# Altium schematic symbol library SCH - MCU - NUVOTON - NUVOTON NUC121SC2AE.SchLib: 1 symbol
Pins are listed as number, name and electrical type; pins without a type are passive.

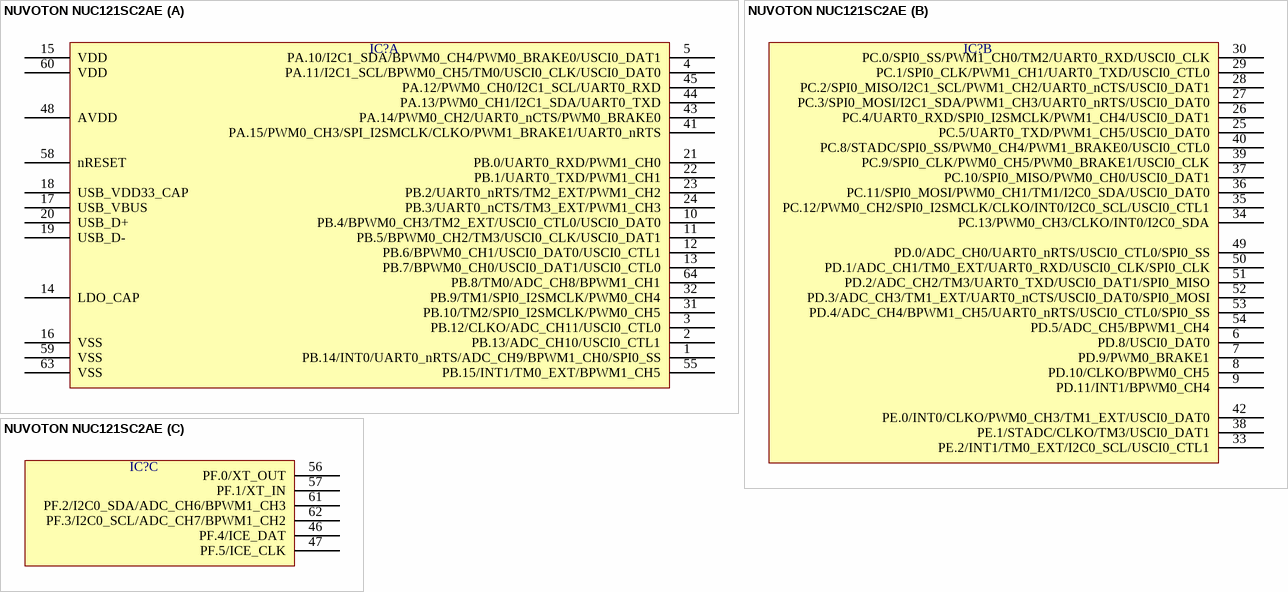
[diagram p0: symbol NUVOTON NUC121SC2AE]

## NUVOTON NUC121SC2AE
designator IC?  (value not drawn)
part A pins: 1 PB.14/INT0/UART0_nRTS/ADC_CH9/BPWM1_CH0/SPI0_SS, 2 PB.13/ADC_CH10/USCI0_CTL1, 3 PB.12/CLKO/ADC_CH11/USCI0_CTL0, 4 PA.11/I2C1_SCL/BPWM0_CH5/TM0/USCI0_CLK/USCI0_DAT0, 5 PA.10/I2C1_SDA/BPWM0_CH4/PWM0_BRAKE0/USCI0_DAT1, 10 PB.4/BPWM0_CH3/TM2_EXT/USCI0_CTL0/USCI0_DAT0, 11 PB.5/BPWM0_CH2/TM3/USCI0_CLK/USCI0_DAT1, 12 PB.6/BPWM0_CH1/USCI0_DAT0/USCI0_CTL1, 13 PB.7/BPWM0_CH0/USCI0_DAT1/USCI0_CTL0, 14 LDO_CAP, 15 VDD, 16 VSS, 17 USB_VBUS, 18 USB_VDD33_CAP, 19 USB_D-, 20 USB_D+, 21 PB.0/UART0_RXD/PWM1_CH0, 22 PB.1/UART0_TXD/PWM1_CH1, 23 PB.2/UART0_nRTS/TM2_EXT/PWM1_CH2, 24 PB.3/UART0_nCTS/TM3_EXT/PWM1_CH3, 31 PB.10/TM2/SPI0_I2SMCLK/PWM0_CH5, 32 PB.9/TM1/SPI0_I2SMCLK/PWM0_CH4, 41 PA.15/PWM0_CH3/SPI_I2SMCLK/CLKO/PWM1_BRAKE1/UART0_nRTS, 43 PA.14/PWM0_CH2/UART0_nCTS/PWM0_BRAKE0, 44 PA.13/PWM0_CH1/I2C1_SDA/UART0_TXD, 45 PA.12/PWM0_CH0/I2C1_SCL/UART0_RXD, 48 AVDD, 55 PB.15/INT1/TM0_EXT/BPWM1_CH5, 58 nRESET, 59 VSS, 60 VDD, 63 VSS, 64 PB.8/TM0/ADC_CH8/BPWM1_CH1
part B pins: 6 PD.8/USCI0_DAT0, 7 PD.9/PWM0_BRAKE1, 8 PD.10/CLKO/BPWM0_CH5, 9 PD.11/INT1/BPWM0_CH4, 25 PC.5/UART0_TXD/PWM1_CH5/USCI0_DAT0, 26 PC.4/UART0_RXD/SPI0_I2SMCLK/PWM1_CH4/USCI0_DAT1, 27 PC.3/SPI0_MOSI/I2C1_SDA/PWM1_CH3/UART0_nRTS/USCI0_DAT0, 28 PC.2/SPI0_MISO/I2C1_SCL/PWM1_CH2/UART0_nCTS/USCI0_DAT1, 29 PC.1/SPI0_CLK/PWM1_CH1/UART0_TXD/USCI0_CTL0, 30 PC.0/SPI0_SS/PWM1_CH0/TM2/UART0_RXD/USCI0_CLK, 33 PE.2/INT1/TM0_EXT/I2C0_SCL/USCI0_CTL1, 34 PC.13/PWM0_CH3/CLKO/INT0/I2C0_SDA, 35 PC.12/PWM0_CH2/SPI0_I2SMCLK/CLKO/INT0/I2C0_SCL/USCI0_CTL1, 36 PC.11/SPI0_MOSI/PWM0_CH1/TM1/I2C0_SDA/USCI0_DAT0, 37 PC.10/SPI0_MISO/PWM0_CH0/USCI0_DAT1, 38 PE.1/STADC/CLKO/TM3/USCI0_DAT1, 39 PC.9/SPI0_CLK/PWM0_CH5/PWM0_BRAKE1/USCI0_CLK, 40 PC.8/STADC/SPI0_SS/PWM0_CH4/PWM1_BRAKE0/USCI0_CTL0, 42 PE.0/INT0/CLKO/PWM0_CH3/TM1_EXT/USCI0_DAT0, 49 PD.0/ADC_CH0/UART0_nRTS/USCI0_CTL0/SPI0_SS, 50 PD.1/ADC_CH1/TM0_EXT/UART0_RXD/USCI0_CLK/SPI0_CLK, 51 PD.2/ADC_CH2/TM3/UART0_TXD/USCI0_DAT1/SPI0_MISO, 52 PD.3/ADC_CH3/TM1_EXT/UART0_nCTS/USCI0_DAT0/SPI0_MOSI, 53 PD.4/ADC_CH4/BPWM1_CH5/UART0_nRTS/USCI0_CTL0/SPI0_SS, 54 PD.5/ADC_CH5/BPWM1_CH4
part C pins: 46 PF.4/ICE_DAT, 47 PF.5/ICE_CLK, 56 PF.0/XT_OUT, 57 PF.1/XT_IN, 61 PF.2/I2C0_SDA/ADC_CH6/BPWM1_CH3, 62 PF.3/I2C0_SCL/ADC_CH7/BPWM1_CH2